# Altium footprint library PcbLib1.PcbLib: 4 footprints
Each footprint in its own frame and in the unit in brackets; x right, y up, seen from the top. Pads: shape width x height; smd on the part's side, far side on the other; paste and mask are expansions set on the pad; w line width, h text height; cw(c..) or ccw(c..) is an arc to the next point about the centre after c.
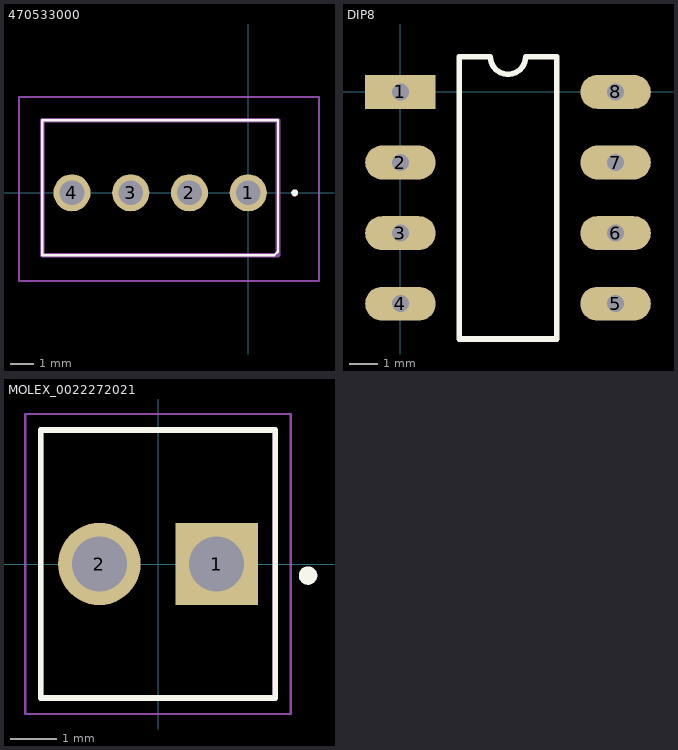
[diagram p0: the footprints below, top view; thin cyan lines are the x and y axes]

## 470533000 [mm]
pads (4):
  round 1.605 hole 1.07: 1(0,0) 2(-2.54,0) 3(-5.08,0) 4(-7.62,0)
Top Overlay:
  lines w0.1: -8.91,-2.7 -8.91,3.14 1.29,3.14 1.29,-2.54 1.13,-2.7 -8.91,-2.7
  lines w0.2: 1.96,0 ccw(c2.01,0) 2.06,0 ccw(c2.01,0) 1.96,0
Mechanical 13:
  lines w0.1: -9.91,-3.81 3.06,-3.81 3.06,4.14 -9.91,4.14 -9.91,-3.81
  lines w0.2: -8.91,-2.7 1.29,-2.7 1.29,3.14 -8.91,3.14 -8.91,-2.7

## DIP8 [mm]
pads (8):
  rect 2.5x1.2 hole 0.6: 1(0,0)
  oval 2.5x1.2 hole 0.6: 2(0,-2.5) 3(0,-5) 4(0,-7.5) 5(7.62,-7.5) 6(7.62,-5) 7(7.62,-2.5) 8(7.62,0)
Top Overlay:
  lines w0.2: 2.085,-8.75 2.085,1.25 3.185,1.25 ccw(c3.81,1.25) 4.435,1.25 5.535,1.25 5.535,-8.75 2.085,-8.75

## MOLEX_0022272021 [mm]
pads (2):
  rect 1.785x1.785 hole 1.19: 1(1.27,0)
  round 1.785 hole 1.19: 2(-1.27,0)
Top Overlay:
  circle w0.2: c3.25,-0.25 r0.1
  lines w0.127: -2.54,-2.9 -2.54,2.9 2.54,2.9 2.54,-2.9 -2.54,-2.9
Mechanical 13:
  lines w0.127: -2.54,-2.9 -2.54,2.9 2.54,2.9 2.54,-2.9 -2.54,-2.9
Mechanical 15:
  lines w0.05: -2.875,-3.25 -2.875,3.25 2.875,3.25 2.875,-3.25 -2.875,-3.25

## PCBComponent_1 [mm]